# Altium schematic symbol library Sensors.SchLib: 2 symbols
Pins are listed as number, name and electrical type; pins without a type are passive.

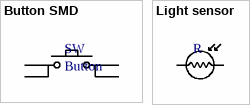
[diagram p0: symbols Button SMD to Light sensor]

## Button SMD
designator SW, comment Button
footprint Button SMD
pins: 1, 2, 3, 4

## Light sensor
designator R  (value not drawn)
footprint Light sensor
pins: 1, 2